# EAGLE library part PCI_ELVIS (library Mechanical)
Standard PCI card edge for use with National Instruments ELVIS board
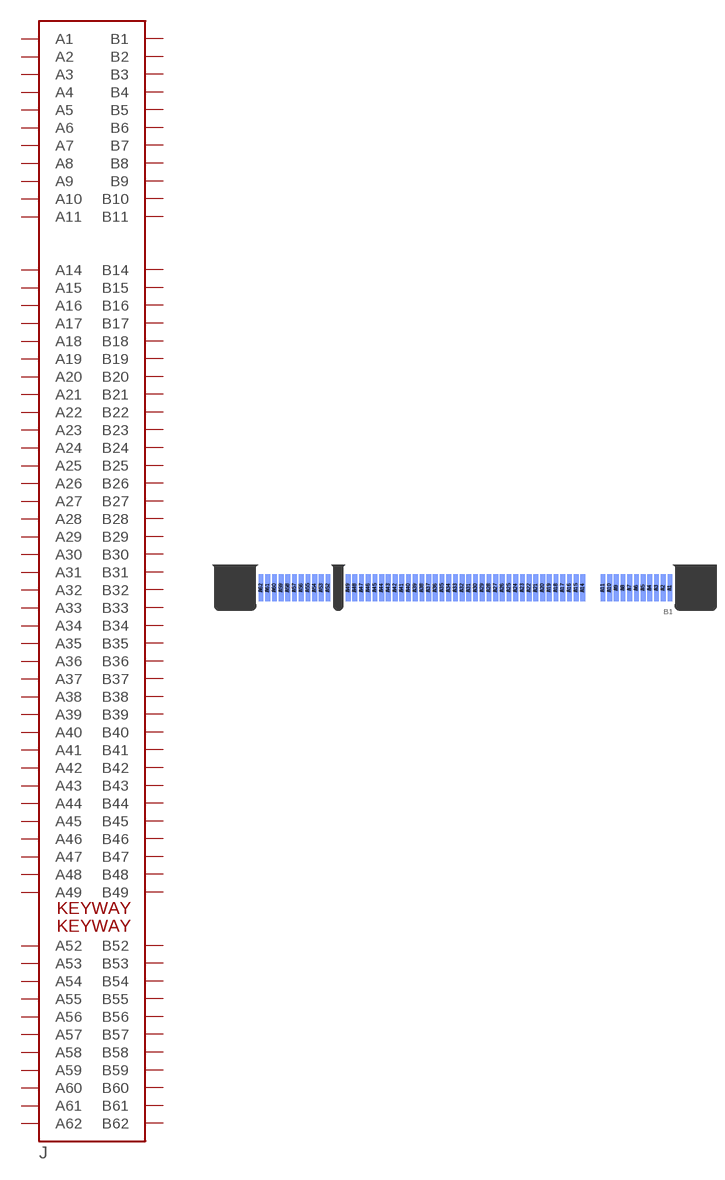
[diagram p69: symbol with the pads of PCI_ELVIS; footprint PCI_ELVIS]

Designator prefix J

## PCI_ELVIS  [PCI_ELVIS]
A1  A1
A2  A2
A3  A3
A4  A4
A5  A5
A6  A6
A7  A7
A8  A8
A9  A9
A10  A10
A11  A11
A14  A14
A15  A15
A16  A16
A17  A17
A18  A18
A19  A19
A20  A20
A21  A21
A22  A22
A23  A23
A24  A24
A25  A25
A26  A26
A27  A27
A28  A28
A29  A29
A30  A30
A31  A31
A32  A32
A33  A33
A34  A34
A35  A35
A36  A36
A37  A37
A38  A38
A39  A39
A40  A40
A41  A41
A42  A42
A43  A43
A44  A44
A45  A45
A46  A46
A47  A47
A48  A48
A49  A49
A52  A52
A53  A53
A54  A54
A55  A55
A56  A56
A57  A57
A58  A58
A59  A59
A60  A60
A61  A61
A62  A62
B1  B1
B2  B2
B3  B3
B4  B4
B5  B5
B6  B6
B7  B7
B8  B8
B9  B9
B10  B10
B11  B11
B14  B14
B15  B15
B16  B16
B17  B17
B18  B18
B19  B19
B20  B20
B21  B21
B22  B22
B23  B23
B24  B24
B25  B25
B26  B26
B27  B27
B28  B28
B29  B29
B30  B30
B31  B31
B32  B32
B33  B33
B34  B34
B35  B35
B36  B36
B37  B37
B38  B38
B39  B39
B40  B40
B41  B41
B42  B42
B43  B43
B44  B44
B45  B45
B46  B46
B47  B47
B48  B48
B49  B49
B52  B52
B53  B53
B54  B54
B55  B55
B56  B56
B57  B57
B58  B58
B59  B59
B60  B60
B61  B61
B62  B62

## Footprint PCI_ELVIS (pad centres in mm)
smd 0.914 x 5.08 bottom: A1 77.47,0; A2 76.2,0; A3 74.93,0; A4 73.66,0; A5 72.39,0; A6 71.12,0; A7 69.85,0; A8 68.58,0; A9 67.31,0; A10 66.04,0; A11 64.77,0; A14 60.96,0; A15 59.69,0; A16 58.42,0; A17 57.15,0; A18 55.88,0; A19 54.61,0; A20 53.34,0; A21 52.07,0; A22 50.8,0; A23 49.53,0; A24 48.26,0; A25 46.99,0; A26 45.72,0; A27 44.45,0; A28 43.18,0; A29 41.91,0; A30 40.64,0; A31 39.37,0; A32 38.1,0; A33 36.83,0; A34 35.56,0; A35 34.29,0; A36 33.02,0; A37 31.75,0; A38 30.48,0; A39 29.21,0; A40 27.94,0; A41 26.67,0; A42 25.4,0; A43 24.13,0; A44 22.86,0; A45 21.59,0; A46 20.32,0; A47 19.05,0; A48 17.78,0; A49 16.51,0; A52 12.7,0; A53 11.43,0; A54 10.16,0; A55 8.89,0; A56 7.62,0; A57 6.35,0; A58 5.08,0; A59 3.81,0; A60 2.54,0; A61 1.27,0; A62 0,0
smd 0.914 x 5.08: B1 77.47,0; B2 76.2,0; B3 74.93,0; B4 73.66,0; B5 72.39,0; B6 71.12,0; B7 69.85,0; B8 68.58,0; B9 67.31,0; B10 66.04,0; B11 64.77,0; B14 60.96,0; B15 59.69,0; B16 58.42,0; B17 57.15,0; B18 55.88,0; B19 54.61,0; B20 53.34,0; B21 52.07,0; B22 50.8,0; B23 49.53,0; B24 48.26,0; B25 46.99,0; B26 45.72,0; B27 44.45,0; B28 43.18,0; B29 41.91,0; B30 40.64,0; B31 39.37,0; B32 38.1,0; B33 36.83,0; B34 35.56,0; B35 34.29,0; B36 33.02,0; B37 31.75,0; B38 30.48,0; B39 29.21,0; B40 27.94,0; B41 26.67,0; B42 25.4,0; B43 24.13,0; B44 22.86,0; B45 21.59,0; B46 20.32,0; B47 19.05,0; B48 17.78,0; B49 16.51,0; B52 12.7,0; B53 11.43,0; B54 10.16,0; B55 8.89,0; B56 7.62,0; B57 6.35,0; B58 5.08,0; B59 3.81,0; B60 2.54,0; B61 1.27,0; B62 0,0